# EAGLE library part SO16N (library ic-packages)
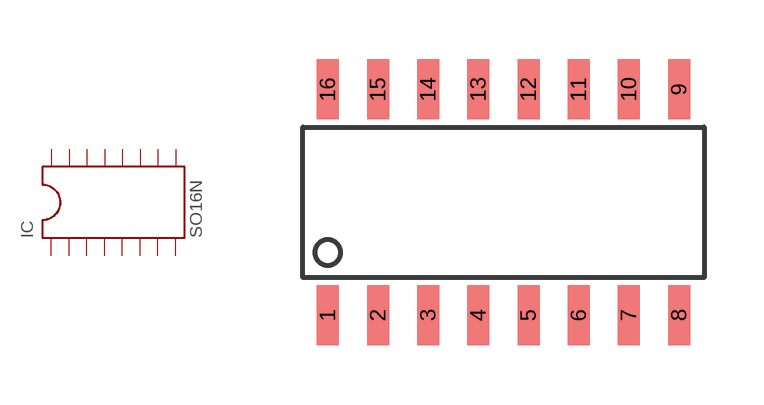
[diagram p8: symbol with the pads of SO16N; footprint SO16N]

Designator prefix IC

## SO16N  [SO16N]
1  P$1
2  P$2
3  P$3
4  P$4
5  P$5
6  P$6
7  P$7
8  P$8
9  P$9
10  P$10
11  P$11
12  P$12
13  P$13
14  P$14
15  P$15
16  P$16

## Footprint SO16N (pad centres in mm)
smd 0.559 x 1.524: 1 -4.445,-3.493; 2 -3.175,-3.493; 3 -1.905,-3.493; 4 -0.635,-3.493; 5 0.635,-3.493; 6 1.905,-3.493; 7 3.175,-3.493; 8 4.445,-3.493; 9 4.445,2.223; 10 3.175,2.223; 11 1.905,2.223; 12 0.635,2.223; 13 -0.635,2.223; 14 -1.905,2.223; 15 -3.175,2.223; 16 -4.445,2.223